# EAGLE library part TRINKET_M0_SOCKET (library brett)
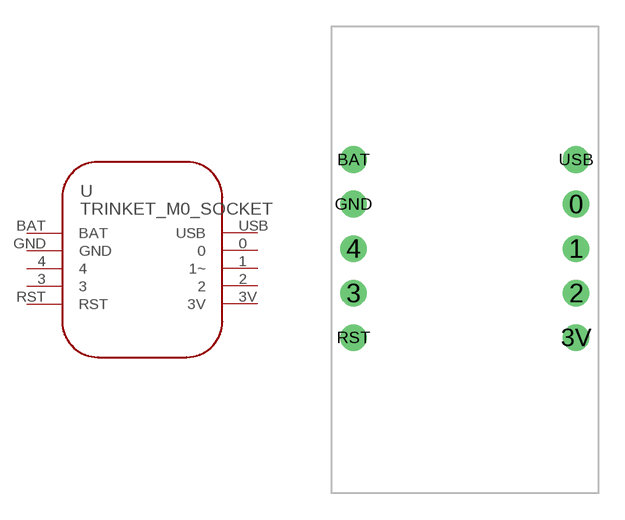
[diagram p9: symbol with the pads of TRINKET_M0_SOCKET; footprint TRINKET_M0_SOCKET]

Designator prefix -

## TRINKET_M0_SOCKET  [TRINKET_M0_SOCKET]
0  0
1  1~
2  2
3  3
3V  3V
4  4
BAT  BAT
GND  GND
RST  RST
USB  USB

## Footprint TRINKET_M0_SOCKET (pad centres in mm)
drill 1.016: 0 3.81,6.35; 1 3.81,3.81; 2 3.81,1.27; 3 -8.89,1.27; 3V 3.81,-1.27; 4 -8.89,3.81; BAT -8.89,8.89; GND -8.89,6.35; RST -8.89,-1.27; USB 3.81,8.89